# Altium integrated library PIC18F14K50-E_SS.IntLib: 1 symbol
Pins are listed as number, name and electrical type; pins without a type are passive.

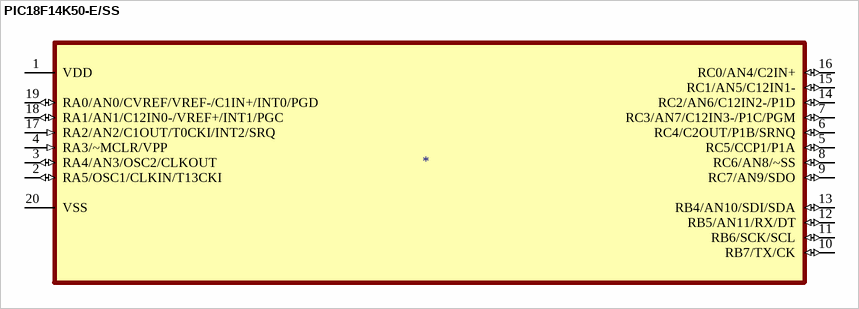
[diagram p0: symbol PIC18F14K50-E/SS]

## PIC18F14K50-E/SS
designator ?
MCU 8-bit PIC18 PIC RISC 16KB Flash 3.3V/5V 20-Pin SSOP Tube; MF: Microchip; MP: PIC18F14K50-E/SS; Price: None; Value: *; Package: None; SnapEDA_Link: https://www.snapeda.com/parts/PIC18F14K50-E/SS/Microchip/view-part/1037096/?ref=snap; Availability: Unavailable
footprint SOP65P780X200-20N
pins: 1 VDD (power), 2 RA5/OSC1/CLKIN/T13CKI (io), 3 RA4/AN3/OSC2/CLKOUT (io), 4 RA3/~MCLR/VPP (in), 5 RC5/CCP1/P1A (io), 6 RC4/C2OUT/P1B/SRNQ (io), 7 RC3/AN7/C12IN3-/P1C/PGM (io), 8 RC6/AN8/~SS (io), 9 RC7/AN9/SDO (io), 10 RB7/TX/CK (io), 11 RB6/SCK/SCL (io), 12 RB5/AN11/RX/DT (io), 13 RB4/AN10/SDI/SDA (io), 14 RC2/AN6/C12IN2-/P1D (io), 15 RC1/AN5/C12IN1- (io), 16 RC0/AN4/C2IN+ (io), 17 RA2/AN2/C1OUT/T0CKI/INT2/SRQ (in), 18 RA1/AN1/C12IN0-/VREF+/INT1/PGC (io), 19 RA0/AN0/CVREF/VREF-/C1IN+/INT0/PGD (io), 20 VSS (power)